# Altium footprint library 2021-07-07_21-31-43.PcbLib: 1 footprints
Each footprint in its own frame and in the unit in brackets; x right, y up, seen from the top. Pads: shape width x height; smd on the part's side, far side on the other; paste and mask are expansions set on the pad; w line width, h text height; cw(c..) or ccw(c..) is an arc to the next point about the centre after c.
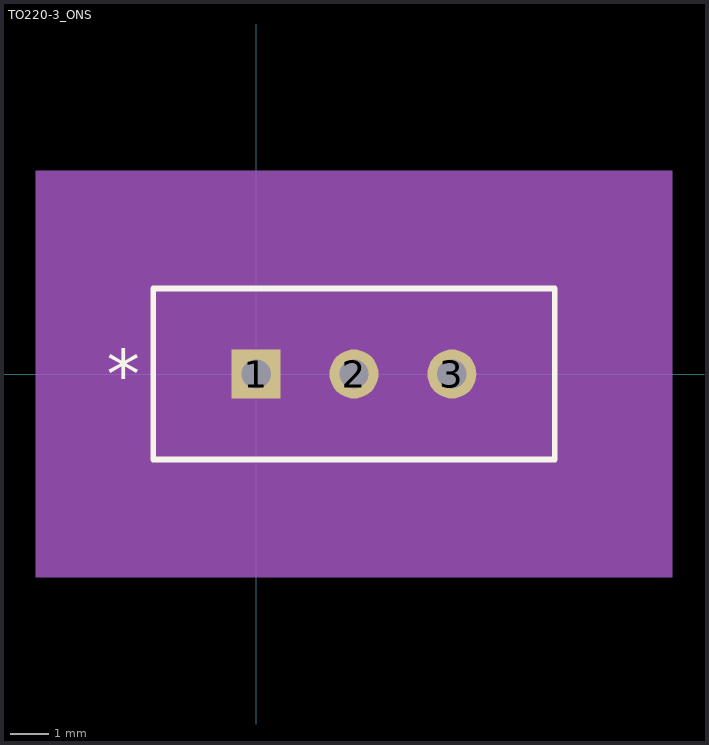
[diagram p0: the footprint, top view; thin cyan lines are the x and y axes]

## TO220-3_ONS [mil]
pads (3):
  rect 50x50 hole 30 mask+0: 1(0,0)
  round 50 hole 30 mask+0: 2(100,0) 3(200,0)
Top Overlay:
  lines w6: -105,-87.5 305,-87.5 305,87.5 -105,87.5 -105,-87.5
  text "*" at -152.5,-25 h50
Mechanical 5:
  region: 425,-207.5 -225,-207.5 -225,207.5 425,207.5
Mechanical 7:
  lines w1: -215,-82.5 -100,-82.5 -100,-197.5 ; -215,82.5 -100,82.5 ; -50,182.5 0,182.5 ; 0,0 0,197.5 ; 100,0 100,197.5 ; 150,182.5 100,182.5 ; 300,-197.5 300,-82.5 ; -200,-82.5 -200,82.5 ; -200,-82.5 -205,-72.5 -195,-72.5 -200,-82.5 ; -200,82.5 -205,72.5 -195,72.5 -200,82.5 ; -100,-182.5 300,-182.5 ; -100,-182.5 -90,-177.5 -90,-187.5 -100,-182.5 ; 0,182.5 -10,187.5 -10,177.5 0,182.5 ; 100,182.5 110,187.5 110,177.5 100,182.5 ; 300,-182.5 290,-177.5 290,-187.5 300,-182.5
  text "Default Padstyle: OX50Y50D30P" at -262.5,-332.5 h50
  text "Pin 1 Padstyle: SX50Y50D30P" at -237.5,-392.5 h50
  text "Alt 1 Padstyle: OX60Y90D30P" at -237.5,-452.5 h50
  text "Alt 2 Padstyle: OX90Y60D30P" at -237.5,-512.5 h50
  text "0.1in/2.54mm" at -25,202.5 h25
  text "0.165in/4.191mm" at -407.5,-12.5 h25
  text "0.4in/10.16mm" at 18.75,-227.5 h25
Mechanical 13:
  lines w1: -100,-82.5 300,-82.5 300,82.5 -100,82.5 -100,-82.5
  text "*" at -102.5,-25 h50
Mechanical 15:
  region: 310,-92.5 -110,-92.5 -110,92.5 310,92.5
  lines w6: -110,-92.5 -110,92.5 310,92.5 310,-92.5 -110,-92.5
3D body: height 10, standoff 0, extent 0,0 10,10